# Altium footprint library LM2596-PSU-01.PcbLib: 1 footprints
Each footprint in its own frame and in the unit in brackets; x right, y up, seen from the top. Pads: shape width x height; smd on the part's side, far side on the other; paste and mask are expansions set on the pad; w line width, h text height; cw(c..) or ccw(c..) is an arc to the next point about the centre after c.
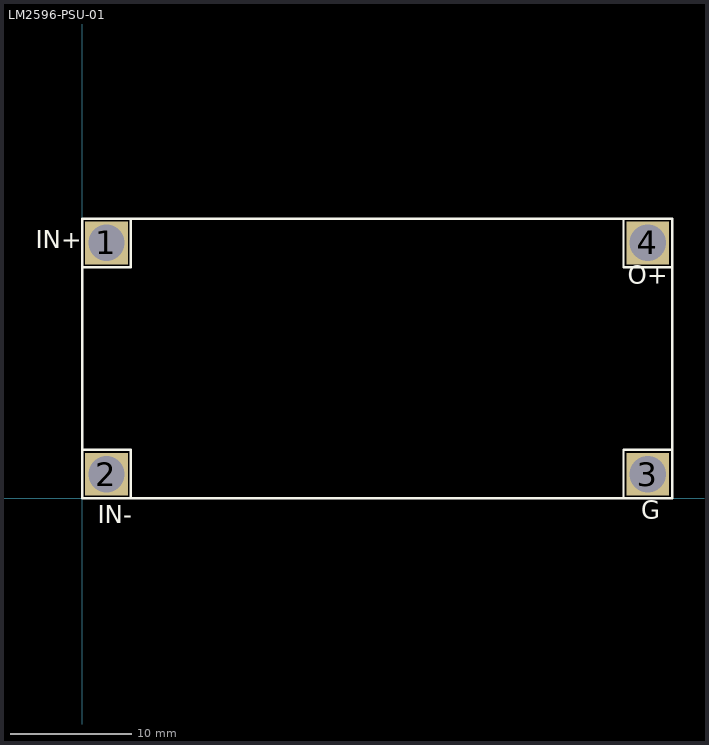
[diagram p0: the footprint, top view; thin cyan lines are the x and y axes]

## LM2596-PSU-01 [mm]
pads (4):
  rect 3.5x3.5 hole 3: 1(2,21) 2(2,2) 3(46.5,2) 4(46.5,21)
Top Overlay:
  lines w0.2: 0,4 4,4 4,0 ; 0,19 4,19 4,23 ; 44.5,0 44.5,4 48.5,4 ; 44.5,23 44.5,19 48.5,19 ; 0,0 48.5,0 48.5,23 0,23 0,0
  text "O+" at 44.831,17.145 h2.5
  text "G" at 45.974,-2.159 h2.5
  text "IN-" at 1.27,-2.54 h2.5
  text "IN+" at -3.81,20.066 h2.5